# Altium schematic symbol library Schlib1-zasilanie.SchLib: 15 symbols
Pins are listed as number, name and electrical type; pins without a type are passive.

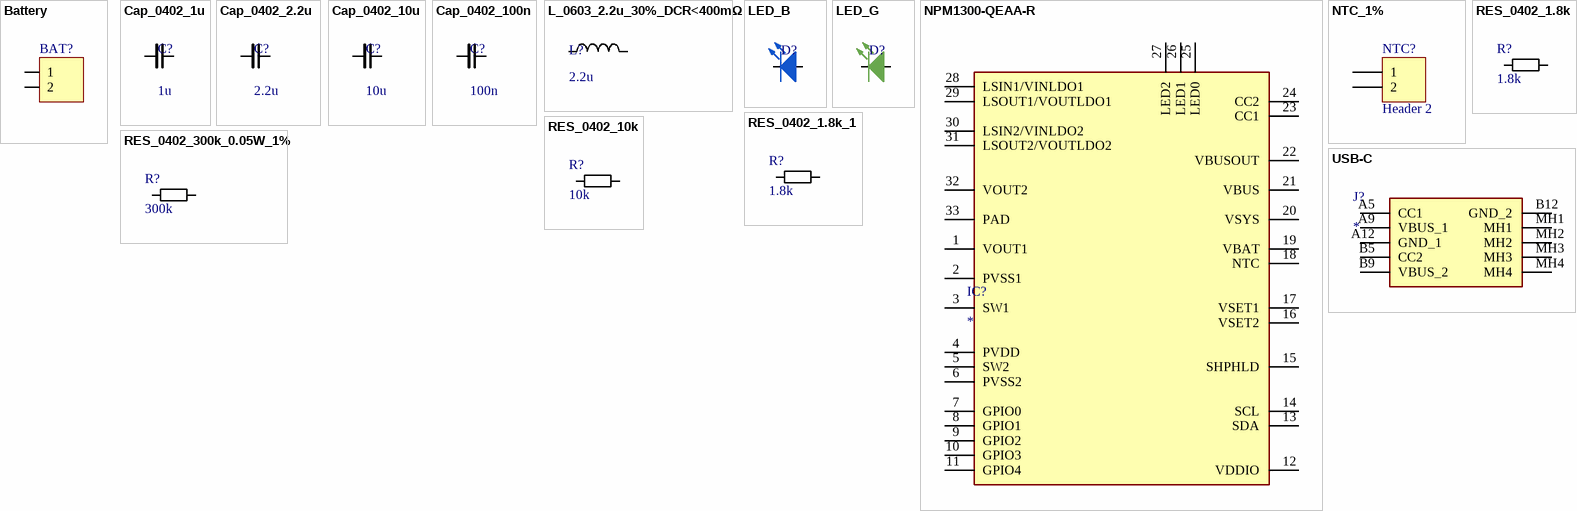
[diagram p0: symbols Battery to USB-C]

## Battery
designator BAT?
BATTERY, Li-ion, Li-polymer, or LiFePO4; LatestRevisionDate: 17-Jul-2002; LatestRevisionNote: Re-released for DXP Platform.; Publisher: Altium Limited
footprint RHDR20W60P0X254_1X20_5130X250X888P
pins: 1, 2

## Cap_0402_1u
designator C?, comment 1u
Ceramic capacitor
footprint 0402_CAP_REFLOW
pins: 1, 2

## Cap_0402_2.2u
designator C?, comment 2.2u
Ceramic capacitor
footprint 0402_CAP_REFLOW
pins: 1, 2

## Cap_0402_10u
designator C?, comment 10u
Ceramic capacitor
footprint 0402_CAP_REFLOW
pins: 1, 2

## Cap_0402_100n
designator C?, comment 100n
Ceramic capacitor
footprint 0402_CAP_REFLOW
pins: 1, 2

## L_0603_2.2u_30%_DCR<400mΩ
designator L?, comment 2.2u
Inductor
footprint 0603_IND_2.2u_30%_DCR<400m?
pins: 1, 2

## LED_B
designator D?
footprint LED_G (SML-LXFM0603SUGCTR)
pins: 1 A, 2 K

## LED_G
designator D?
SML-LXFM0603SUGCTR
footprint LED_G (SML-LXFM0603SUGCTR)
pins: 1 A, 2 K

## NPM1300-QEAA-R
designator IC?
Integrated Circuit; Manufacturer_Name: Nordic Semiconductor; Manufacturer_Part_Number: NPM1300-QEAA-R; Datasheet Link: https://infocenter.nordicsemi.com/index.jsp?topic=%2Fstruct_pmic%2Fstruct%2Fnpm1300.html; Height: 0.9mm; Mouser Part Number: 949-NPM1300-QEAA-R; Mouser Price/Stock: https://www.mouser.co.uk/ProductDetail/Nordic-Semiconductor/nPM1300-QEAA-R?qs=3pZoU%2F6IRTiFavqFmjPoaw%3D%3D
footprint nPM1300-QFN50P500X500X90-33N
pins: 1 VOUT1, 2 PVSS1, 3 SW1, 4 PVDD, 5 SW2, 6 PVSS2, 7 GPIO0, 8 GPIO1, 9 GPIO2, 10 GPIO3, 11 GPIO4, 12 VDDIO, 13 SDA, 14 SCL, 15 SHPHLD, 16 VSET2, 17 VSET1, 18 NTC, 19 VBAT, 20 VSYS, 21 VBUS, 22 VBUSOUT, 23 CC1, 24 CC2, 25 LED0, 26 LED1, 27 LED2, 28 LSIN1/VINLDO1, 29 LSOUT1/VOUTLDO1, 30 LSIN2/VINLDO2, 31 LSOUT2/VOUTLDO2, 32 VOUT2, 33 PAD

## NTC_1%
designator NTC?, comment Header 2
NTC, 10 / 47 / 100 k; LatestRevisionDate: 17-Jul-2002; LatestRevisionNote: Re-released for DXP Platform.; Publisher: Altium Limited
footprint RHDR20W60P0X254_1X20_5130X250X888P
pins: 1, 2

## RES_0402_1.8k
designator R?, comment 1.8k
Resistor, blue LED
footprint 0402_RES_REFLOW
pins: 1, 2
1 alternate drawing of the same symbol

## RES_0402_1.8k_1
designator R?, comment 1.8k
Resistor, green LED
footprint 0402_RES_REFLOW
pins: 1, 2
1 alternate drawing of the same symbol

## RES_0402_10k
designator R?, comment 10k
Resistor, optional pull-up resistors for TWI, dependent on bus speed and parasitic capacitances
footprint 0402_RES_REFLOW
pins: 1, 2
1 alternate drawing of the same symbol

## RES_0402_300k_0.05W_1%
designator R?, comment 300k
Resistor
footprint 0402_RES_REFLOW
pins: 1, 2
1 alternate drawing of the same symbol

## USB-C
designator J?
Connector; Manufacturer_Name: Molex; Manufacturer_Part_Number: 217175-0001; Datasheet Link: https://www.molex.com/pdm_docs/sd/2171750001_sd.pdf; Height: 3.46mm; Mouser Part Number: 538-217175-0001; Mouser Price/Stock: https://www.mouser.co.uk/ProductDetail/Molex/217175-0001?qs=DRkmTr78QARWJMiqNnldSg%3D%3D
footprint USB-C
pins: A5 CC1, A9 VBUS_1, A12 GND_1, B5 CC2, B9 VBUS_2, B12 GND_2, MH1, MH2, MH3, MH4